# EAGLE library part MCP2515 (library Aldebaran)
Interfaz IC CAN W/ SPI Interface
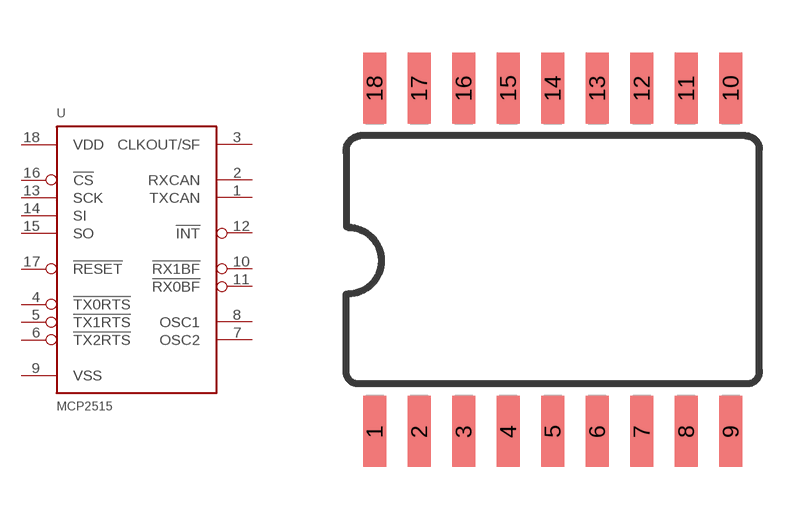
[diagram p2: symbol with the pads of SOIC_18; footprint SOIC_18]

Designator prefix -

## MCP2515  [SOIC_18]
1  TXCAN
2  RXCAN
3  CLKOUT/SF
4  !TX0RTS
5  !TX1RTS
6  !TX2RTS
7  OSC2
8  OSC1
9  VSS  pwr
10  !RX1BF
11  !RX0BF
12  !INT
13  SCK
14  SI
15  SO
16  !CS
17  !RESET
18  VDD  pwr

## Footprint SOIC_18 (pad centres in mm)
18-Lead Plastic Small Outline- wide 7.50mm Body [SOIC]
smd 0.66 x 2.032: 1 -5.082,-4.936; 2 -3.812,-4.936; 3 -2.542,-4.936; 4 -1.272,-4.936; 5 -0.002,-4.936; 6 1.268,-4.936; 7 2.538,-4.936; 8 3.808,-4.936; 9 5.079,-4.936; 10 5.079,4.869; 11 3.808,4.869; 12 2.538,4.869; 13 1.268,4.869; 14 -0.002,4.869; 15 -1.272,4.869; 16 -2.542,4.869; 17 -3.812,4.869; 18 -5.082,4.869